# Altium footprint library L33.PcbLib: 19 footprints (part 2 of 2)
Each footprint in its own frame and in the unit in brackets; x right, y up, seen from the top. Pads: shape width x height; smd on the part's side, far side on the other; paste and mask are expansions set on the pad; w line width, h text height; cw(c..) or ccw(c..) is an arc to the next point about the centre after c.
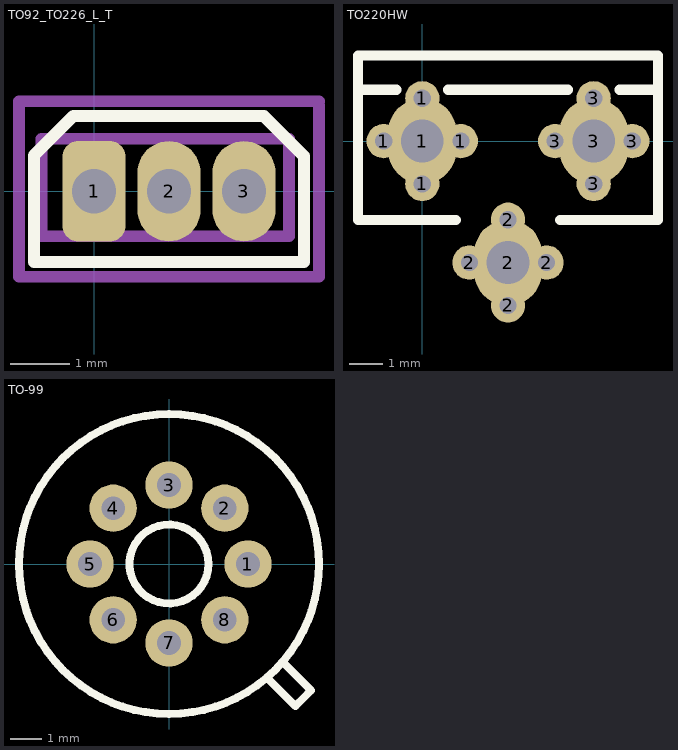
[diagram p1: the footprints below, top view; thin cyan lines are the x and y axes]

## TO92_TO226_L_T [mm]
pads (3):
  rrect50% 1.07x1.7 hole 0.75 paste+0 mask+0.07: 1(0,0)
  oval 1.07x1.7 hole 0.75 paste+0 mask+0.07: 2(1.27,0) 3(2.54,0)
Top Overlay:
  lines w0.203: -1.016,-1.2 3.556,-1.2 3.556,0.594 2.875,1.275 -0.35,1.275 -1.016,0.609 -1.016,-1.2
Mechanical 2:
  lines w0.2: -0.889,-0.762 -0.889,0.889 3.302,0.889 3.302,-0.762 -0.889,-0.762
Mechanical 4:
  lines w0.2: 3.81,1.46 3.81,-1.448 2.508,-1.448 -0.095,-1.448 -1.27,-1.448 -1.27,1.524 3.81,1.524
3D body "Hal uciety.step": height 5.55, standoff -3.2, extent -0.8,-0.595 3.2,0.925

## TO220HW [mil]
pads (15):
  round 40 hole 20: 1(-45,0) 1(0,-50) 1(0,50) 1(45,0) 2(55,-141.73) 2(100,-191.73) 2(100,-91.73) 2(145,-141.73) 3(155,0) 3(200,-50) 3(200,50) 3(245,0)
  oval 80x100 hole 50: 1(0,0) 2(100,-141.73) 3(200,0)
Top Overlay:
  lines w12: -75,-92 -75,60 ; -74,-92 39,-92 ; -30,60 -75,60 ; 30,60 170,60 ; 161,-92 274,-92 ; 230,60 275,60 ; 275,-92 275,60 ; -75,60 -75,100 275,100 275,60

## TO-99 [mil]
pads (8):
  round 60 hole 30: 1(100,0) 2(70.71,70.71) 3(0,100) 4(-70.71,70.71) 5(-100,0) 6(-70.71,-70.71) 7(0,-100) 8(70.71,-70.71)
Top Overlay:
  circle w10: c0,0 r190
  circle w10: c0,0 r50
  lines w10: 125,-145 160,-180 170,-170 180,-160 145,-125
3D body "User Library-TO-99(2013).step": height 231.5, standoff -214.57, extent -254.52,-279.52 280.07,255.07